# EAGLE library part TPS54232 (library My_TI)
TPS54232 2-A, 28-V, 1-MHz, Step-Down DC-DC Converter With Eco-Mode™. 3.5-V to 28-V Input Voltage Range. Adjustable Output Voltage Down to 0.8 V. Fixed 1-MHz Switching Frequency. Datasheet <http://www.ti.com/lit/ds/symlink/tps54232.pdf>
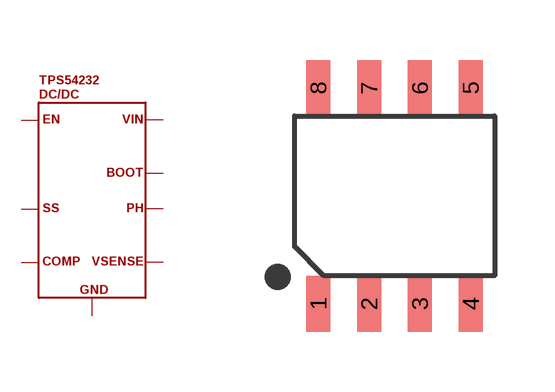
[diagram p31: symbol with the pads of SOIC8-1.27-5X4MM; footprint SOIC8-1.27-5X4MM]

Designator prefix DC/DC

## TPS54232  [SOIC8-1.27-5X4MM]
1  1
2  2
3  3
4  4
5  5
6  6
7  7
8  8

## Footprint SOIC8-1.27-5X4MM (pad centres in mm)
smd 0.6 x 1.4: 1 -1.905,-2.7; 2 -0.635,-2.7; 3 0.635,-2.7; 4 1.905,-2.7; 5 1.905,2.7; 6 0.635,2.7; 7 -0.635,2.7; 8 -1.905,2.7